# EAGLE library part DYNASTREAM_N5 (library dynastreamN5)
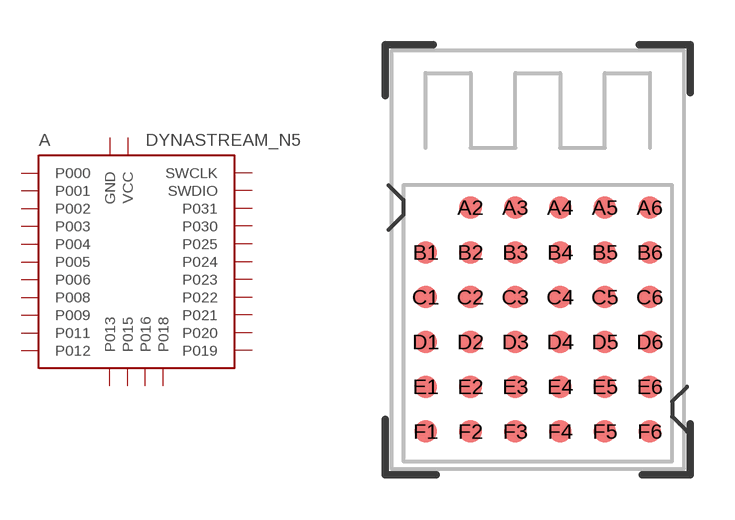
[diagram p0: symbol with the pads of DYNASTREAM_N5; footprint DYNASTREAM_N5]

Designator prefix A

## DYNASTREAM_N5  [DYNASTREAM_N5]
A2  GND
A3  GND
A4  GND
A5  GND
A6  GND
B1  SWDIO
B2  P018
B3  P020
B4  P019
B5  VCC
B6  VCC
C1  SWCLK
C2  P013
C3  P016
C4  P022
C5  VCC
C6  VCC
D1  P012
D2  P015
D3  P025
D4  P023
D5  P021
D6  P024
E1  P009
E2  P011
E3  P006
E4  P004
E5  P000
E6  P030
F1  P008
F2  P005
F3  P003
F4  P001
F5  P002
F6  P031

## Footprint DYNASTREAM_N5 (pad centres in mm)
smd 0.762 x 0.762: A2 1.5,0; A3 3,0; A4 4.5,0; A5 6,0; A6 7.5,0; B1 0,-1.5; B2 1.5,-1.5; B3 3,-1.5; B4 4.5,-1.5; B5 6,-1.5; B6 7.5,-1.5; C1 0,-3; C2 1.5,-3; C3 3,-3; C4 4.5,-3; C5 6,-3; C6 7.5,-3; D1 0,-4.5; D2 1.5,-4.5; D3 3,-4.5; D4 4.5,-4.5; D5 6,-4.5; D6 7.5,-4.5; E1 0,-6; E2 1.5,-6; E3 3,-6; E4 4.5,-6; E5 6,-6; E6 7.5,-6; F1 0,-7.5; F2 1.5,-7.5; F3 3,-7.5; F4 4.5,-7.5; F5 6,-7.5; F6 7.5,-7.5